# Altium schematic symbol library Test.SchLib: 4 symbols
Pins are listed as number, name and electrical type; pins without a type are passive.

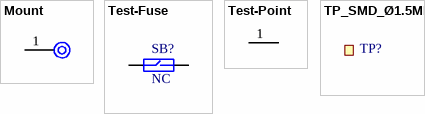
[diagram p0: symbols Mount to TP_SMD_Ø1.5MM]

## Mount
designator PTH?, comment Mounting Hole  (value not drawn)  (net tie, no BOM)
footprint MOUNT_HOLE_4_2MM
footprint MOUNT_HOLE_06_06_MM
footprint JLCPCB_Tolling_Hole
footprint MOUNT_HOLE_55_31 (5.5mm 3.1mm mounting hole)
footprint MOUNT_HOLE_42_42 (For 4mm hole)
footprint MOUNT_HOLE_48_27
footprint MOUNT_HOLE_46_46 (For 4.5mm hole)
pins: 1 TP "Test Point"

## Test-Fuse
designator SB?, comment NC
Fuse easy soldering for test
footprint 0603-FUSE
footprint 0402-FUSE
pins: 1, 2

## Test-Point
designator TP?, comment Test Point  (value not drawn)  (net tie, no BOM)
footprint TP-40
footprint TP-60
footprint TP-100
footprint TP-100-40
footprint TP-160-60
footprint TP_H_24_80_36
footprint TP_H_48_120_64
footprint TP-120-20
footprint TP-120-20-NP
footprint TP-140-20-NP
footprint TP-64-32
footprint TP-96-48
footprint TP_H_48_120_64_Shift (Hole on left 1/3)
pins: 1 TP "Test Point"

## TP_SMD_Ø1.5MM
designator TP?, comment Ø1.5mm,SMD  (value not drawn)  (no BOM)
1.5mm circular SMD testpad; Part Number: TP_SMD_Ø1.5MM; Manufacturer: Nordic Semiconductor; Manufacturer Part Number: N.A.; Pad Count: 1; ComponentLink1URL: N.A.; ComponentLink1Description: Datasheet; ComponentLink2URL: N.A.; ComponentLink2Description: Supplier link; HelpURL: N.A.; Footprint Doc: TP_SMD_Ø1.5mm; LatestRevisionDate: 2021-03-05; Pin Count: 1; Publisher: Nordic Semiconductor; Published: 2016-06-02; Value: Ø1.5mm,SMD; Note: N.A.; Artikkelnr Noca: N.A.; Part number IPS: N.A.; Supplier 1: N.A.; Supplier Part Number 1: N.A.; Supplier 2: N.A.; Supplier Part Number 2: N.A.; Component Class: Connectors; PartId: 100500477; Author: rsk; Part number Norautron: N.A.
footprint TP_SMD_Ø1.5mm
pins: 1